# EAGLE library part TLV320AIC3104 (library alvie)
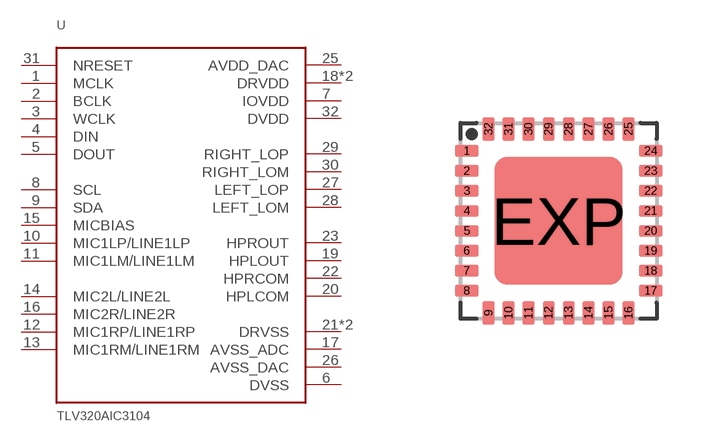
[diagram p62: symbol with the pads of QFN32; footprint QFN32]

Designator prefix -

## TLV320AIC3104  [QFN32]
1  MCLK  in
2  BCLK  in
3  WCLK  in
4  DIN  in
5  DOUT  out
6  DVSS  pwr
7  IOVDD  pwr
8  SCL
9  SDA
10  MIC1LP/LINE1LP  pas
11  MIC1LM/LINE1LM  pas
12  MIC1RP/LINE1RP  pas
13  MIC1RM/LINE1RM  pas
14  MIC2L/LINE2L  pas
15  MICBIAS  pas
16  MIC2R/LINE2R  pas
17  AVSS_ADC  pwr
18  DRVDD  pwr
19  HPLOUT  pas
20  HPLCOM  pas
21  DRVSS  pwr
22  HPRCOM  pas
23  HPROUT  pas
24  DRVDD  pwr
25  AVDD_DAC  pwr
26  AVSS_DAC  pwr
27  LEFT_LOP  pas
28  LEFT_LOM  pas
29  RIGHT_LOP  pas
30  RIGHT_LOM  pas
31  NRESET  in
32  DVDD  pwr
EXP  DRVSS  pwr

## Footprint QFN32 (pad centres in mm)
smd 0.6 x 0.3: 1 -2.3,1.75; 2 -2.3,1.25; 3 -2.3,0.75; 4 -2.3,0.25; 5 -2.3,-0.25; 6 -2.3,-0.75; 7 -2.3,-1.25; 8 -2.3,-1.75; 17 2.3,-1.75; 18 2.3,-1.25; 19 2.3,-0.75; 20 2.3,-0.25; 21 2.3,0.25; 22 2.3,0.75; 23 2.3,1.25; 24 2.3,1.75
smd 0.3 x 0.6: 9 -1.75,-2.3; 10 -1.25,-2.3; 11 -0.75,-2.3; 12 -0.25,-2.3; 13 0.25,-2.3; 14 0.75,-2.3; 15 1.25,-2.3; 16 1.75,-2.3; 25 1.75,2.3; 26 1.25,2.3; 27 0.75,2.3; 28 0.25,2.3; 29 -0.25,2.3; 30 -0.75,2.3; 31 -1.25,2.3; 32 -1.75,2.3
smd 3.2 x 3.2: EXP 0,0